# Altium schematic symbol library CAP,Alum,1000uF,25VDC,Radial,Thru.Schlib: 1 symbol
Pins are listed as number, name and electrical type; pins without a type are passive.

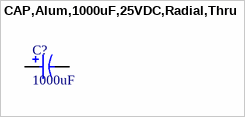
[diagram p0: symbol CAP,Alum,1000uF,25VDC,Radial,Thru]

## CAP,Alum,1000uF,25VDC,Radial,Thru
designator C?, comment 1000uF
1000 µF 25 V Aluminum Electrolytic Capacitors Radial, Can 2000 Hrs @ 105°C
pins: 1, 2